# Altium schematic symbol library SCH - POWER - LINEAR VREG - TI TPS75215-EPPWP.SchLib: 1 symbol
Pins are listed as number, name and electrical type; pins without a type are passive.

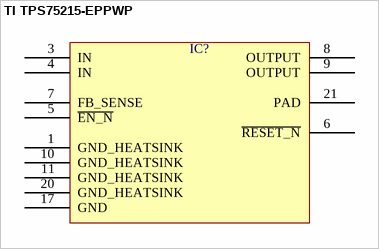
[diagram p0: symbol TI TPS75215-EPPWP]

## TI TPS75215-EPPWP
designator IC?  (value not drawn)
pins: 1 GND_HEATSINK, 3 IN, 4 IN, 5 ~{EN_N}, 6 ~{RESET_N}, 7 FB_SENSE, 8 OUTPUT, 9 OUTPUT, 10 GND_HEATSINK, 11 GND_HEATSINK, 17 GND, 20 GND_HEATSINK, 21 PAD